# Altium schematic symbol library StandardResistors.SchLib: 73 symbols
Pins are listed as number, name and electrical type; pins without a type are passive.

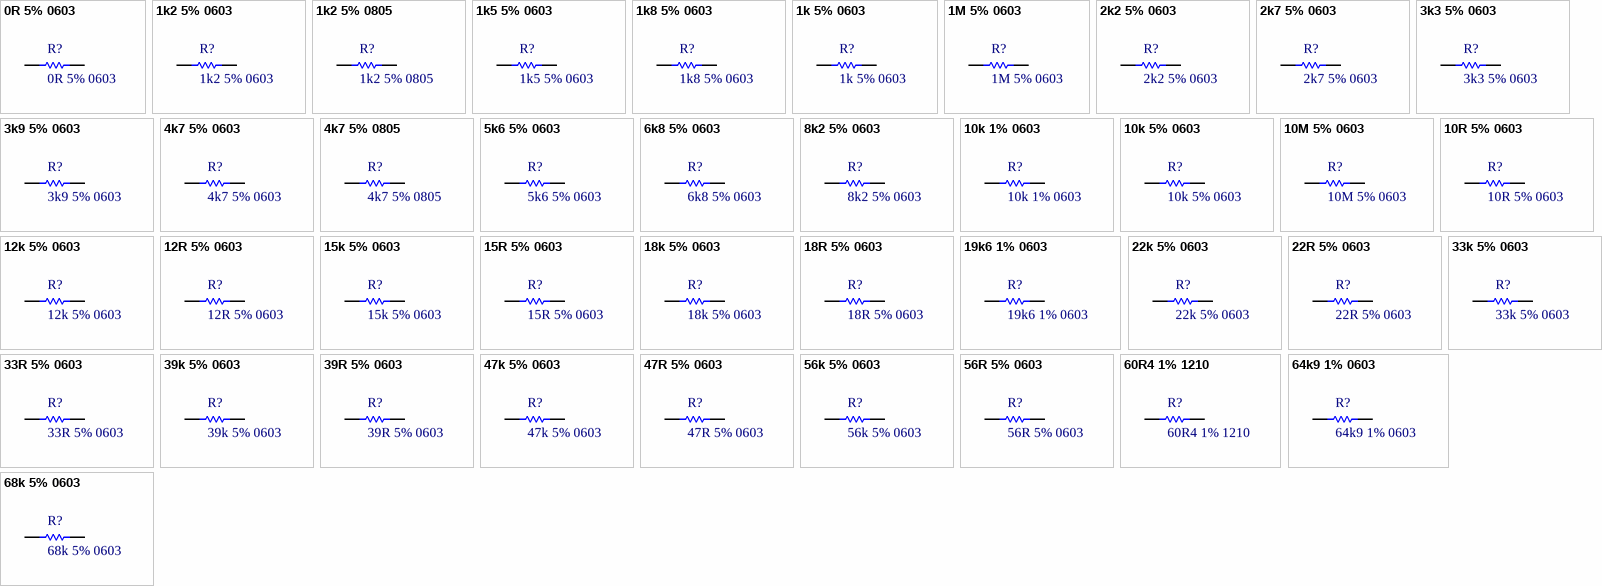
[diagram p0: symbols 0R 5% 0603 to 68k 5% 0603]

## 0R 5% 0603
designator R?
Resistor, SMD, 0R, 0.1W, 5%, 0603
footprint Res_ThinFilm_0603
pins: 1, 2

## 1k2 5% 0603
designator R?
Resistor, SMD, 1k2, 0.1W, 5%, 0603
footprint Res_ThinFilm_0603
pins: 1, 2

## 1k2 5% 0805
designator R?
Resistor, SMD, 1k2, 0.125W, 5%, 0805
footprint Res_ThinFilm_0805
pins: 1, 2

## 1k5 5% 0603
designator R?
Resistor, SMD, 1k5, 0.1W, 5%, 0603
footprint Res_ThinFilm_0603
pins: 1, 2

## 1k8 5% 0603
designator R?
Resistor, SMD, 1k8, 0.1W, 5%, 0603
footprint Res_ThinFilm_0603
pins: 1, 2

## 1k 5% 0603
designator R?
Resistor, SMD, 1k, 0.1W, 5%, 0603
footprint Res_ThinFilm_0603
pins: 1, 2

## 1M 5% 0603
designator R?
Resistor, SMD, 1M, 0.1W, 5%, 0603
footprint Res_ThinFilm_0603
pins: 1, 2

## 2k2 5% 0603
designator R?
Resistor, SMD, 2k2, 0.1W, 5%, 0603
footprint Res_ThinFilm_0603
pins: 1, 2

## 2k7 5% 0603
designator R?
Resistor, SMD, 2k7, 0.1W, 5%, 0603
footprint Res_ThinFilm_0603
pins: 1, 2

## 3k3 5% 0603
designator R?
Resistor, SMD, 3k3, 0.1W, 5%, 0603
footprint Res_ThinFilm_0603
pins: 1, 2

## 3k9 5% 0603
designator R?
Resistor, SMD, 3k9, 0.1W, 5%, 0603
footprint Res_ThinFilm_0603
pins: 1, 2

## 4k7 5% 0603
designator R?
Resistor, SMD, 4k7, 0.1W, 5%, 0603
footprint Res_ThinFilm_0603
pins: 1, 2

## 4k7 5% 0805
designator R?
Resistor, SMD, 4k7, 0.125W, 5%, 0805
footprint Res_ThinFilm_0805
pins: 1, 2

## 5k6 5% 0603
designator R?
Resistor, SMD, 5k6, 0.1W, 5%, 0603
footprint Res_ThinFilm_0603
pins: 1, 2

## 6k8 5% 0603
designator R?
Resistor, SMD, 6k8, 0.1W, 5%, 0603
footprint Res_ThinFilm_0603
pins: 1, 2

## 8k2 5% 0603
designator R?
Resistor, SMD, 8k2, 0.1W, 5%, 0603
footprint Res_ThinFilm_0603
pins: 1, 2

## 10k 1% 0603
designator R?
Resistor, SMD, 10k, 0.1W, 1%, 0603
footprint Res_ThinFilm_0603
pins: 1, 2

## 10k 5% 0603
designator R?
Resistor, SMD, 10k, 0.1W, 5%, 0603
footprint Res_ThinFilm_0603
pins: 1, 2

## 10M 5% 0603
designator R?
Resistor, SMD, 10M, 0.1W, 5%, 0603
footprint Res_ThinFilm_0603
pins: 1, 2

## 10R 5% 0603
designator R?
Resistor, SMD, 10R, 0.1W, 5%, 0603
footprint Res_ThinFilm_0603
pins: 1, 2

## 12k 5% 0603
designator R?
Resistor, SMD, 12k, 0.1W, 5%, 0603
footprint Res_ThinFilm_0603
pins: 1, 2

## 12R 5% 0603
designator R?
Resistor, SMD, 12R, 0.1W, 5%, 0603
footprint Res_ThinFilm_0603
pins: 1, 2

## 15k 5% 0603
designator R?
Resistor, SMD, 15k, 0.1W, 5%, 0603
footprint Res_ThinFilm_0603
pins: 1, 2

## 15R 5% 0603
designator R?
Resistor, SMD, 15R, 0.1W, 5%, 0603
footprint Res_ThinFilm_0603
pins: 1, 2

## 18k 5% 0603
designator R?
Resistor, SMD, 18k, 0.1W, 5%, 0603
footprint Res_ThinFilm_0603
pins: 1, 2

## 18R 5% 0603
designator R?
Resistor, SMD, 18R, 0.1W, 5%, 0603
footprint Res_ThinFilm_0603
pins: 1, 2

## 19k6 1% 0603
designator R?
Resistor, SMD, 19k6, 0.1W, 5%, 0603
footprint Res_ThinFilm_0603
pins: 1, 2

## 22k 5% 0603
designator R?
Resistor, SMD, 22k, 0.1W, 5%, 0603
footprint Res_ThinFilm_0603
pins: 1, 2

## 22R 5% 0603
designator R?
Resistor, SMD, 22R, 0.1W, 5%, 0603
footprint Res_ThinFilm_0603
pins: 1, 2

## 33k 5% 0603
designator R?
Resistor, SMD, 33k, 0.1W, 5%, 0603
footprint Res_ThinFilm_0603
pins: 1, 2

## 33R 5% 0603
designator R?
Resistor, SMD, 33R, 0.1W, 5%, 0603
footprint Res_ThinFilm_0603
pins: 1, 2

## 39k 5% 0603
designator R?
Resistor, SMD, 39k, 0.1W, 5%, 0603
footprint Res_ThinFilm_0603
pins: 1, 2

## 39R 5% 0603
designator R?
Resistor, SMD, 39R, 0.1W, 5%, 0603
footprint Res_ThinFilm_0603
pins: 1, 2

## 47k 5% 0603
designator R?
Resistor, SMD, 47k, 0.1W, 5%, 0603
footprint Res_ThinFilm_0603
pins: 1, 2

## 47R 5% 0603
designator R?
Resistor, SMD, 47R, 0.1W, 5%, 0603
footprint Res_ThinFilm_0603
pins: 1, 2

## 56k 5% 0603
designator R?
Resistor, SMD, 56k, 0.1W, 5%, 0603
footprint Res_ThinFilm_0603
pins: 1, 2

## 56R 5% 0603
designator R?
Resistor, SMD, 56R, 0.1W, 5%, 0603
footprint Res_ThinFilm_0603
pins: 1, 2

## 60R4 1% 1210
designator R?
Resistor, SMD, 60R4, 0.25W, 1%, 1210
footprint Res_ThinFilm_1210
pins: 1, 2

## 64k9 1% 0603
designator R?
Resistor, SMD, 64k9, 0.1W, 5%, 0603
footprint Res_ThinFilm_0603
pins: 1, 2

## 68k 5% 0603
designator R?
Resistor, SMD, 68k, 0.1W, 5%, 0603
footprint Res_ThinFilm_0603
pins: 1, 2

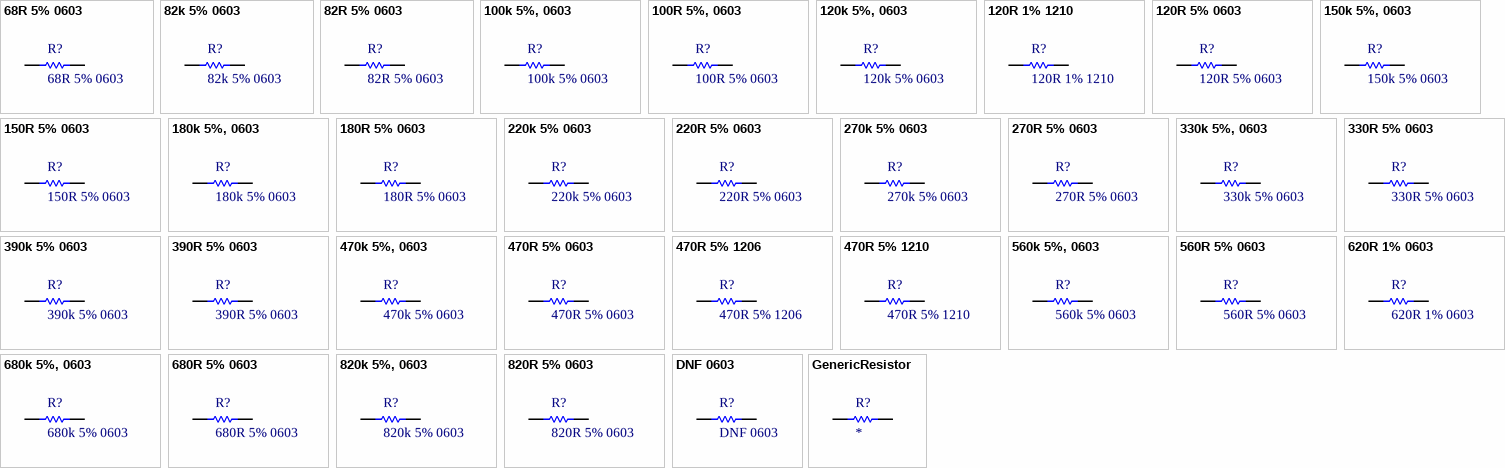
[diagram p1: symbols 68R 5% 0603 to GenericResistor]

## 68R 5% 0603
designator R?
Resistor, SMD, 68R, 0.1W, 5%, 0603
footprint Res_ThinFilm_0603
pins: 1, 2

## 82k 5% 0603
designator R?
Resistor, SMD, 82k, 0.1W, 5%, 0603
footprint Res_ThinFilm_0603
pins: 1, 2

## 82R 5% 0603
designator R?
Resistor, SMD, 82R, 0.1W, 5%, 0603
footprint Res_ThinFilm_0603
pins: 1, 2

## 100k 5%, 0603
designator R?, comment 100k 5% 0603
Resistor, SMD, 100k, 0.1W, 5%, 0603
footprint Res_ThinFilm_0603
pins: 1, 2

## 100R 5%, 0603
designator R?, comment 100R 5% 0603
Resistor, SMD, 100R, 0.1W, 5%, 0603
footprint Res_ThinFilm_0603
pins: 1, 2

## 120k 5%, 0603
designator R?, comment 120k 5% 0603
Resistor, SMD, 120k, 0.1W, 5%, 0603
footprint Res_ThinFilm_0603
pins: 1, 2

## 120R 1% 1210
designator R?
Resistor, SMD, 120R, 0.25W, 1%, 1210
footprint Res_ThinFilm_1210
pins: 1, 2

## 120R 5% 0603
designator R?
Resistor, SMD, 120R, 0.1W, 5%, 0603
footprint Res_ThinFilm_0603
pins: 1, 2

## 150k 5%, 0603
designator R?, comment 150k 5% 0603
Resistor, SMD, 150k, 0.1W, 5%, 0603
footprint Res_ThinFilm_0603
pins: 1, 2

## 150R 5% 0603
designator R?
Resistor, SMD, 150R, 0.1W, 5%, 0603
footprint Res_ThinFilm_0603
pins: 1, 2

## 180k 5%, 0603
designator R?, comment 180k 5% 0603
Resistor, SMD, 180k, 0.1W, 5%, 0603
footprint Res_ThinFilm_0603
pins: 1, 2

## 180R 5% 0603
designator R?
Resistor, SMD, 180R, 0.1W, 5%, 0603
footprint Res_ThinFilm_0603
pins: 1, 2

## 220k 5% 0603
designator R?
Resistor, SMD, 220k, 0.1W, 5%, 0603
footprint Res_ThinFilm_0603
pins: 1, 2

## 220R 5% 0603
designator R?
Resistor, SMD, 220R, 0.1W, 5%, 0603
footprint Res_ThinFilm_0603
pins: 1, 2

## 270k 5% 0603
designator R?
Resistor, SMD, 270k, 0.1W, 5%, 0603
footprint Res_ThinFilm_0603
pins: 1, 2

## 270R 5% 0603
designator R?
Resistor, SMD, 270R, 0.1W, 5%, 0603
footprint Res_ThinFilm_0603
pins: 1, 2

## 330k 5%, 0603
designator R?, comment 330k 5% 0603
Resistor, SMD, 330k, 0.1W, 5%, 0603
footprint Res_ThinFilm_0603
pins: 1, 2

## 330R 5% 0603
designator R?
Resistor, SMD, 330R, 0.1W, 5%, 0603
footprint Res_ThinFilm_0603
pins: 1, 2

## 390k 5% 0603
designator R?
Resistor, SMD, 390k, 0.1W, 5%, 0603
footprint Res_ThinFilm_0603
pins: 1, 2

## 390R 5% 0603
designator R?
Resistor, SMD, 390R, 0.1W, 5%, 0603
footprint Res_ThinFilm_0603
pins: 1, 2

## 470k 5%, 0603
designator R?, comment 470k 5% 0603
Resistor, SMD, 470k, 0.1W, 5%, 0603
footprint Res_ThinFilm_0603
pins: 1, 2

## 470R 5% 0603
designator R?
Resistor, SMD, 470R, 0.1W, 5%, 0603
footprint Res_ThinFilm_0603
pins: 1, 2

## 470R 5% 1206
designator R?
Resistor, SMD, 60R4, 0.25W, 5%, 1206
footprint Res_ThinFilm_1206
pins: 1, 2

## 470R 5% 1210
designator R?
Resistor, SMD, 470R, 0.25W, 5%, 1210
footprint Res_ThinFilm_1210
pins: 1, 2

## 560k 5%, 0603
designator R?, comment 560k 5% 0603
Resistor, SMD, 560k, 0.1W, 5%, 0603
footprint Res_ThinFilm_0603
pins: 1, 2

## 560R 5% 0603
designator R?
Resistor, SMD, 560R, 0.1W, 5%, 0603
footprint Res_ThinFilm_0603
pins: 1, 2

## 620R 1% 0603
designator R?
Resistor, SMD, 680R, 0.1W, 5%, 0603
footprint Res_ThinFilm_0603
pins: 1, 2

## 680k 5%, 0603
designator R?, comment 680k 5% 0603
Resistor, SMD, 680k, 0.1W, 5%, 0603
footprint Res_ThinFilm_0603
pins: 1, 2

## 680R 5% 0603
designator R?
Resistor, SMD, 680R, 0.1W, 5%, 0603
footprint Res_ThinFilm_0603
pins: 1, 2

## 820k 5%, 0603
designator R?, comment 820k 5% 0603
Resistor, SMD, 820k, 0.1W, 5%, 0603
footprint Res_ThinFilm_0603
pins: 1, 2

## 820R 5% 0603
designator R?
Resistor, SMD, 820R, 0.1W, 5%, 0603
footprint Res_ThinFilm_0603
pins: 1, 2

## DNF 0603
designator R?
Resistor, SMD, DNF, 0.1W, 0603
footprint Res_ThinFilm_0603
pins: 1, 2

## GenericResistor
designator R?
footprint Res_ThinFilm_0603
footprint Res_ThinFilm_0805
footprint Res_ThinFilm_1206
footprint Res_ThinFilm_1210
footprint Res_ThinFilm_1812
pins: 1, 2